# Altium footprint library PCB_IntegratedCircuit.PcbLib: 36 footprints (part 3 of 3)
Each footprint in its own frame and in the unit in brackets; x right, y up, seen from the top. Pads: shape width x height; smd on the part's side, far side on the other; paste and mask are expansions set on the pad; w line width, h text height; cw(c..) or ccw(c..) is an arc to the next point about the centre after c.
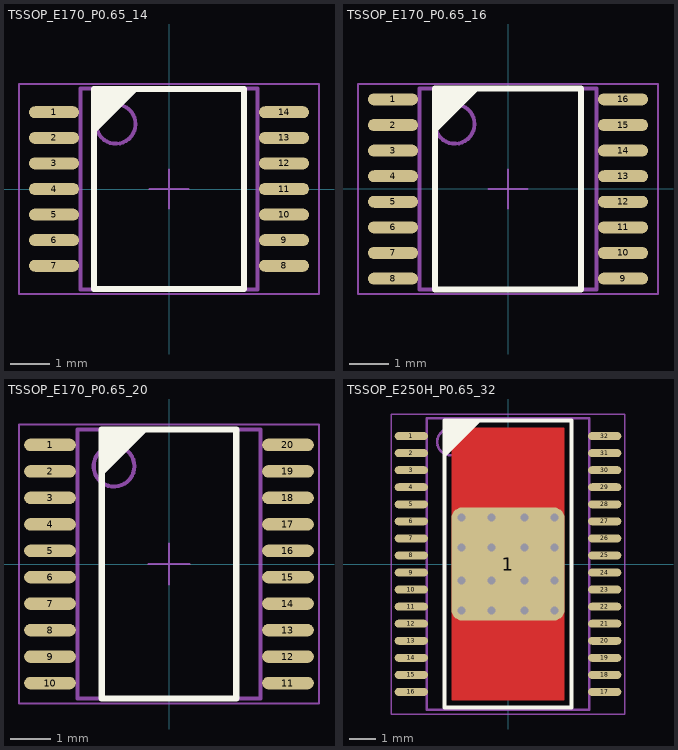
[diagram p2: the footprints below, top view; thin cyan lines are the x and y axes]

## TSSOP_E170_P0.65_14 [mil]
height 47.24
pads (14):
  oval 50x12 smd: 1(-115,76.77) 2(-115,51.18) 3(-115,25.59) 4(-115,0) 5(-115,-25.59) 6(-115,-51.18) 7(-115,-76.77) 8(115,-76.77) 9(115,-51.18) 10(115,-25.59) 11(115,0) 12(115,25.59) 13(115,51.18) 14(115,76.77)
Top Overlay:
  region: -75,100.47 -30,100.47 -75,55.47
  lines w6: -75,-100 75,-100 75,100 -75,100 -75,-100
Mechanical 13:
  circle w3.94: c-53.15,64.96 r19.68
  lines w2: -19.68,0 19.69,0 ; 0,-19.68 0,19.69
  lines w3.94: -88.58,-100.39 88.58,-100.39 88.58,100.39 -88.58,100.39 -88.58,-100.39
T-Component:
  lines w2: -150,-105 -150,105 150,105 150,-105 -150,-105
3D body: height 47.24, standoff 0, extent -125.98,-100.39 125.99,100.4

## TSSOP_E170_P0.65_16 [mil]
height 47.24
pads (16):
  oval 50x12 smd: 1(-115,89.57) 2(-115,63.98) 3(-115,38.39) 4(-115,12.8) 5(-115,-12.8) 6(-115,-38.39) 7(-115,-63.98) 8(-115,-89.57) 9(115,-89.57) 10(115,-63.98) 11(115,-38.39) 12(115,-12.8) 13(115,12.8) 14(115,38.39) 15(115,63.98) 16(115,89.57)
Top Overlay:
  region: -72.83,100.87 -27.83,100.87 -72.83,55.87
  lines w6: -72.83,-100.39 72.83,-100.39 72.83,100.39 -72.83,100.39 -72.83,-100.39
Mechanical 13:
  circle w3.94: c-53.15,64.96 r19.68
  lines w2: -19.68,0 19.69,0 ; 0,-19.69 0,19.68
  lines w3.94: -88.58,-100.39 88.58,-100.39 88.58,100.39 -88.58,100.39 -88.58,-100.39
T-Component:
  lines w2: -150,-105 150,-105 150,105 -150,105 -150,-105
3D body: height 47.24, standoff 0, extent -125.98,-100.39 125.99,100.4

## TSSOP_E170_P0.65_20 [mil]
height 47.24
pads (20):
  oval 50x12 smd: 1(-115,115.16) 2(-115,89.57) 3(-115,63.98) 4(-115,38.39) 5(-115,12.8) 6(-115,-12.8) 7(-115,-38.39) 8(-115,-63.98) 9(-115,-89.57) 10(-115,-115.16) 11(115,-115.16) 12(115,-89.57) 13(115,-63.98) 14(115,-38.39) 15(115,-12.8) 16(115,12.8) 17(115,38.39) 18(115,63.98) 19(115,89.57) 20(115,115.16)
Top Overlay:
  region: -65,130 -20,130 -65,85
  lines w6: -65,-130 65,-130 65,130 -65,130 -65,-130
Mechanical 13:
  circle w3.94: c-53.15,94.49 r19.68
  lines w2: -20,0 20,0 ; 0,-20 0,20
  lines w3.94: -88.58,-129.92 88.58,-129.92 88.58,129.92 -88.58,129.92 -88.58,-129.92
T-Component:
  lines w2: -145,-135 -145,135 145,135 145,-135 -145,-135
3D body: height 41.69, standoff -1.62, extent -125.98,-129.91 125.99,129.93

## TSSOP_E250H_P0.65_32 [mil]
height 47.24
pads (33):
  oval 50x12 smd: 1(-145,191.93) 2(-145,166.34) 3(-145,140.75) 4(-145,115.16) 5(-145,89.57) 6(-145,63.98) 7(-145,38.39) 8(-145,12.8) 9(-145,-12.8) 10(-145,-38.39) 11(-145,-63.98) 12(-145,-89.57) 13(-145,-115.16) 14(-145,-140.75) 15(-145,-166.34) 16(-145,-191.93) 17(145,-191.93) 18(145,-166.34) 19(145,-140.75) 20(145,-115.16) 21(145,-89.57) 22(145,-63.98) 23(145,-38.39) 24(145,-12.8) 25(145,12.8) 26(145,38.39) 27(145,63.98) 28(145,89.57) 29(145,115.16) 30(145,140.75) 31(145,166.34) 32(145,191.93)
  rrect20% 170x170 smd: 1(0,0)
via -70,-70 diameter 24 hole 12
via 70,-70 diameter 24 hole 12
via -25,-70 diameter 24 hole 12
via 25,-70 diameter 24 hole 12
via 25,-25 diameter 24 hole 12
via -25,-25 diameter 24 hole 12
via 70,-25 diameter 24 hole 12
via -70,-25 diameter 24 hole 12
via 70,25 diameter 24 hole 12
via -70,25 diameter 24 hole 12
via 25,25 diameter 24 hole 12
via -25,25 diameter 24 hole 12
via -25,70 diameter 24 hole 12
via 25,70 diameter 24 hole 12
via -70,70 diameter 24 hole 12
via 70,70 diameter 24 hole 12
Top Layer:
  rectangle: -85,-205 85,205
Top Overlay:
  region: -95,215 -40,215 -95,160
  lines w6: -95,-215 95,-215 95,215 -95,215 -95,-215
Mechanical 13:
  circle w3.94: c-86.61,183.07 r19.68
  lines w2: -20,0 20,0 ; 0,-20 0,20
  lines w3.94: -122.05,-218.5 122.05,-218.5 122.05,218.5 -122.05,218.5 -122.05,-218.5
T-Component:
  lines w2: -175,-225 175,-225 175,225 -175,225 -175,-225
3D body: height 43.26, standoff -1.57, extent -157.48,-180.79 157.48,207